# EAGLE library part IC_LT4356-2 (library Main)
The LT®4356 surge stopper protects loads from high voltage transients. It regulates the output during an overvoltage event, such as load dump in automobiles, by controlling the gate of an external N-channel MOSFET. The output is limited to a safe value thereby allowing the loads to continue functioning. The LT4356 also monitors the voltage drop between the VCC and SNS pins to protect against overcurrent faults. An internal amplifi er limits the current sense voltage to 50mV. In either fault condition, a timer is started inversely proportional to MOSFET stress. If the timer expires, the FLT pin pulls low to warn of an impending power down. If the condition persists, the MOSFET is turned off. After a cool down period, the GATE pin pulls up turning on the MOSFET again. The auxiliary amplifi er may be used as a voltage detection comparator or as a linear regulator controller driving an external PNP pass transistor. Back-to-back FETs can be used in lieu of a Schottky diode for reverse input protection, reducing voltage drop and power loss. A shutdown pin reduces the quiescent current to less than 7µA for the LT4356-1 during shutdown. The LT4356-2 differs from the LT4356-1 during shutdown by reducing the quiescent current to 60µA and keeping alive the auxiliary amplifi er for uses such as an undervoltage lockout or always-on regulator.
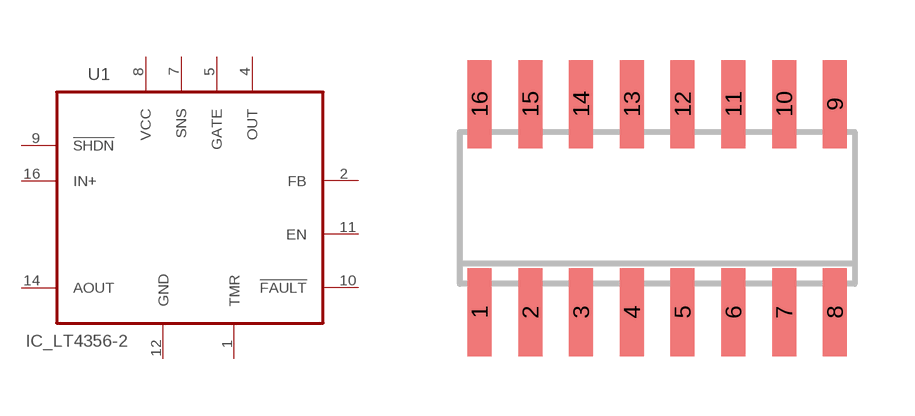
[diagram p1: symbol with the pads of IC_SOIC-16; footprint IC_SOIC-16]

Designator prefix U1

## IC_LT4356-2  [IC_SOIC-16]
1  TMR
2  FB  in
4  OUT  in
5  GATE  out
7  SNS  in
8  VCC  pwr
9  !SHDN  in
10  !FAULT  out
11  EN  out
12  GND  pwr
14  AOUT  out
16  IN+  in

## Footprint IC_SOIC-16 (pad centres in mm)
smd 0.6 x 2.2: 1 -4.445,-2.6; 2 -3.175,-2.6; 3 -1.905,-2.6; 4 -0.635,-2.6; 5 0.635,-2.6; 6 1.905,-2.6; 7 3.175,-2.6; 8 4.445,-2.6; 9 4.445,2.6; 10 3.175,2.6; 11 1.905,2.6; 12 0.635,2.6; 13 -0.635,2.6; 14 -1.905,2.6; 15 -3.175,2.6; 16 -4.445,2.6